# EAGLE library part OSTEE-06-3.5 (library AL-Connectors)
TERMINAL BLOCK 3.5MM 4POS PCB http://www.on-shore.com/wp-content/uploads/2015/09/osttexx0164.pdf
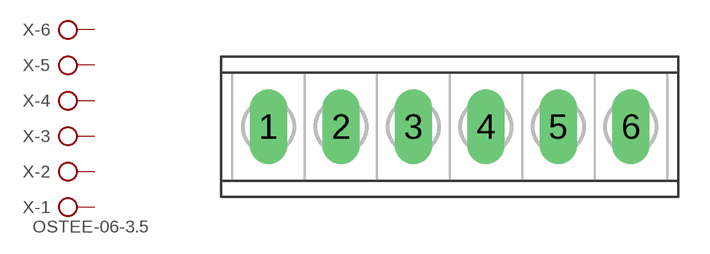
[diagram p0: symbol with the pads of OSTEE-06-3.5; footprint OSTEE-06-3.5]

Designator prefix X; gates -1=KLV -2=KL -3=KL -4=KL -5=KL -6=KL

## OSTEE-06-3.5  [OSTEE-06-3.5]
1  -1:KL  pas
2  -2:KL  pas
3  -3:KL  pas
4  -4:KL  pas
5  -5:KL  pas
6  -6:KL  pas

## Footprint OSTEE-06-3.5 (pad centres in mm)
TERMINAL BLOCK 3.5MM 6POS PCB
drill 1.2 long: 1 -8.75,0; 2 -5.25,0; 3 -1.75,0; 4 1.75,0; 5 5.25,0; 6 8.75,0